# Altium schematic symbol library RF_Connector.SchLib: 4 symbols
Pins are listed as number, name and electrical type; pins without a type are passive.

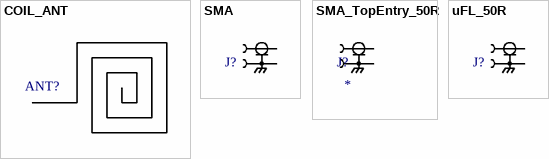
[diagram p0: symbols COIL_ANT to uFL_50R]

## COIL_ANT
designator ANT?  (value not drawn)  (mechanical)

## SMA
designator J?
SMA CONNECTOR; Package: *; Manufacturer 1: *; Manufacturer Part Number 1: *; Supplier 1: *; Suuplier Part Number 1: *
footprint SMA-KE-347-H13.5-1.6 (SMA BOARD EDGE LAUNCH)
pins: 1, 2, 3, 4, 5

## SMA_TopEntry_50R
designator J?
SMA STR PCB SKT GZD; Supplier Part Number 1: *; Supplier 1: *; Manufacturer Part Number 1: *; Manufacturer 1: *; ERP: *; Package: *; Value: *
footprint SMA_TopEntry_50R
pins: 1, 2, 3, 4, 5

## uFL_50R
designator J?, comment ERP_148-1  (value not drawn)
uFL_50R; Package: L3W3; Value: *; ERP: *; Manufacturer 1: *; Manufacturer Part Number 1: *; Supplier 1: *; Suuplier Part Number 1: *
footprint uFL_50R (U.FL (UMCC), I-PEX MHFI Connector Receptacle, Male Pin 50 Ohms Surface Mount Solder)
pins: 1, 2, 3